# Altium schematic symbol library BC847BLT1G.SchLib: 2 symbols
Pins are listed as number, name and electrical type; pins without a type are passive.

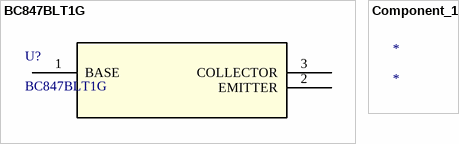
[diagram p0: symbols BC847BLT1G to Component_1]

## BC847BLT1G
designator U?
No Description Available; Mfr_Name: onsemi; Copyright: Copyright (C) 2022 Ultra Librarian. All rights reserved.; Manufacturer_Part_Number: BC847BLT1G; RefDes: RefDes; Type: DEV
footprint SOT23-3_ONS
pins: 1 BASE, 2 EMITTER, 3 COLLECTOR

## Component_1
designator *